# Altium footprint library EtherIOv2.PcbLib: 62 footprints (part 4 of 4)
Each footprint in its own frame and in the unit in brackets; x right, y up, seen from the top. Pads: shape width x height; smd on the part's side, far side on the other; paste and mask are expansions set on the pad; w line width, h text height; cw(c..) or ccw(c..) is an arc to the next point about the centre after c.
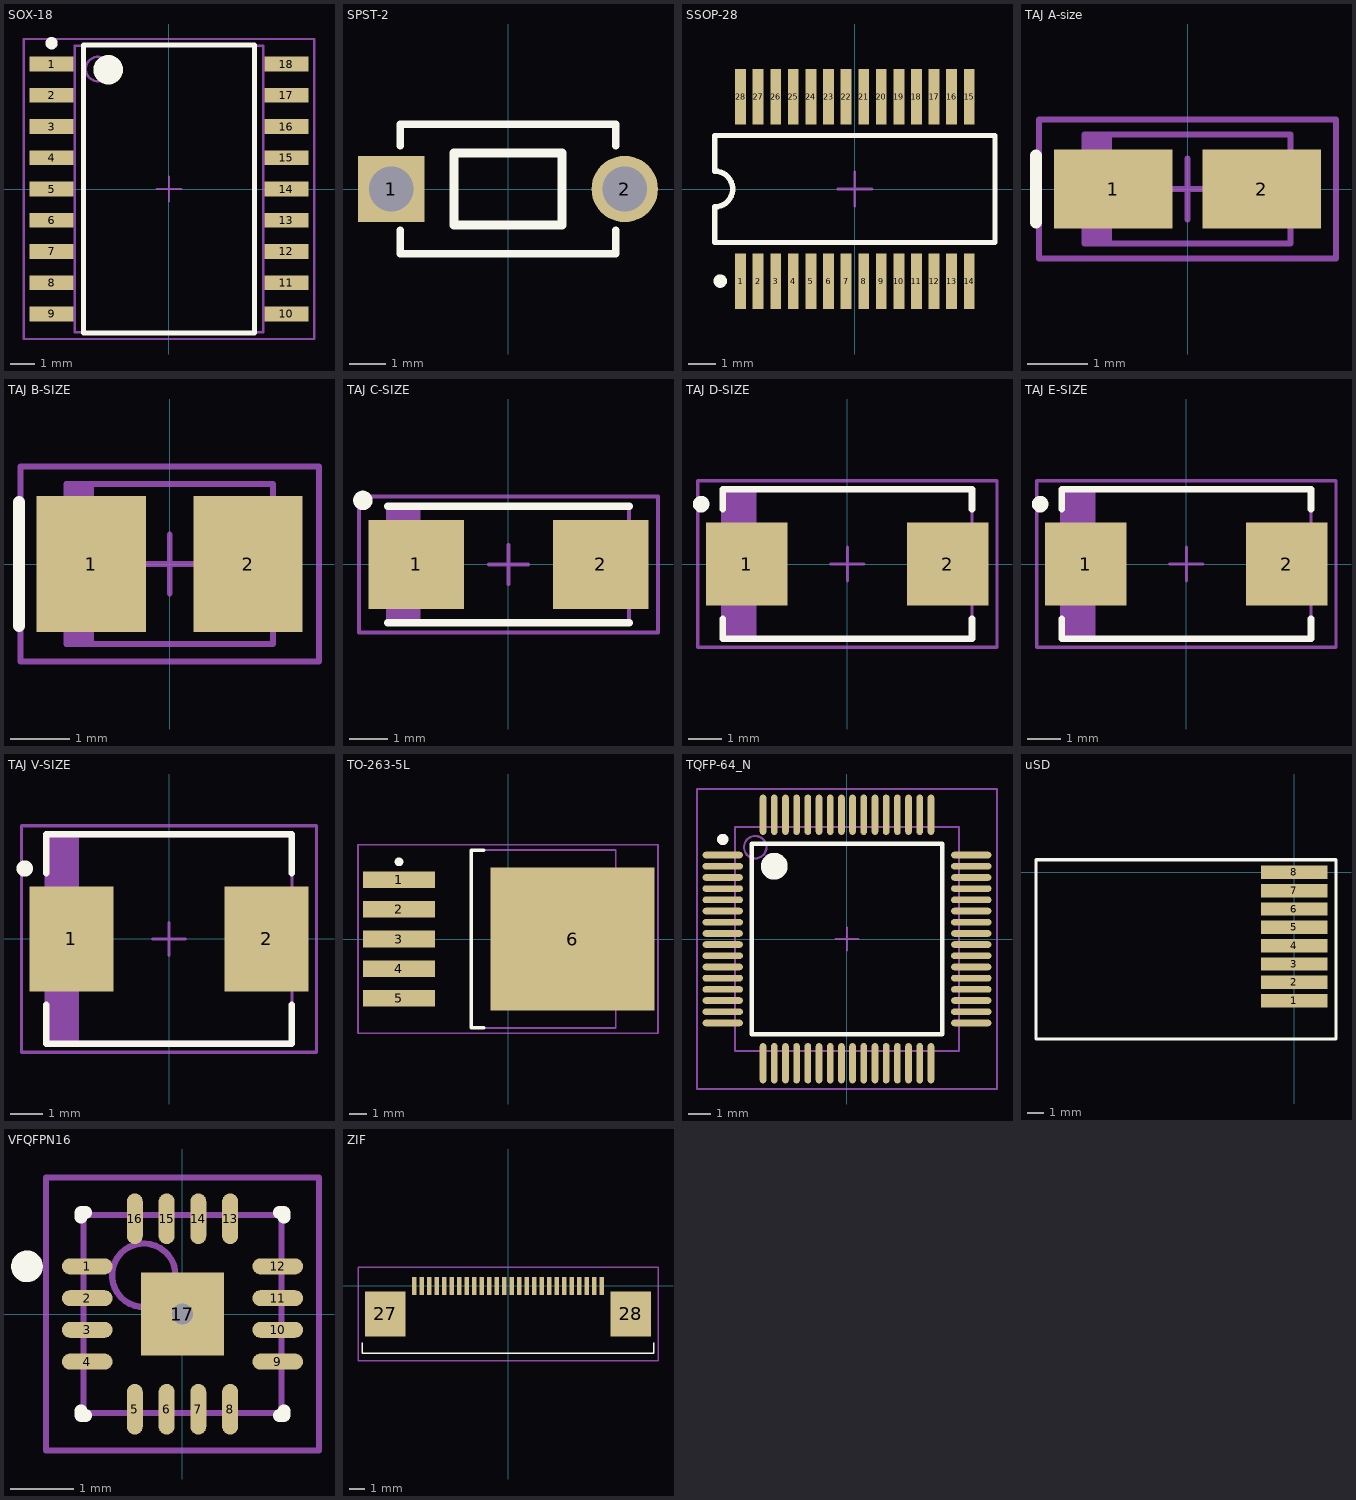
[diagram p3: the footprints below, top view; thin cyan lines are the x and y axes]

## SOX-18 [mm]
height 2.69
pads (18):
  rect 1.8x0.6 smd: 1(-4.775,5.08) 2(-4.775,3.81) 3(-4.775,2.54) 4(-4.775,1.27) 5(-4.775,0) 6(-4.775,-1.27) 7(-4.775,-2.54) 8(-4.775,-3.81) 9(-4.775,-5.08) 10(4.775,-5.08) 11(4.775,-3.81) 12(4.775,-2.54) 13(4.775,-1.27) 14(4.775,0) 15(4.775,1.27) 16(4.775,2.54) 17(4.775,3.81) 18(4.775,5.08)
Top Overlay:
  circle w0.25: c-4.775,5.93 r0.125
  circle w0.6: c-2.475,4.85 r0.3
  lines w0.2: -3.475,-5.85 -3.475,5.85 3.475,5.85 3.475,-5.85 -3.475,-5.85
Mechanical 13:
  circle w0.1: c-2.885,4.88 r0.5
  lines w0.1: -3.835,-5.83 -3.835,5.83 3.835,5.83 3.835,-5.83 -3.835,-5.83
Mechanical 15:
  lines w0.1: -0.5,0 0.5,0 ; 0,-0.5 0,0.5 ; -5.9,-6.1 -5.9,6.1 5.9,6.1 5.9,-6.1 -5.9,-6.1
3D body: height 2.69, standoff 0.15, extent -3.835,-5.83 3.835,5.83

## SPST-2 [mm] "Circuit Breaker; 2 Leads"
pads (2):
  rect 1.85x1.85 hole 1.25: 1(-3.25,0)
  round 1.85 hole 1.25: 2(3.25,0)
Top Overlay:
  lines w0.2: -3,-1.15 -3,-1.8 3,-1.8 3,-1.15 ; -3,1.2 -3,1.8 3,1.8 3,1.2
  lines w0.254: -1.5,-1 1.5,-1 1.5,1 -1.5,1 -1.5,-1

## SSOP-28 [mm] "SSOP, Plastic; 28 Leads; Body Width 5.2 mm; Pitch 0.65 mm"
height 1.99
pads (28):
  rect 0.4x2.05 smd: 1(-4.225,-3.4) 2(-3.575,-3.4) 3(-2.925,-3.4) 4(-2.275,-3.4) 5(-1.625,-3.4) 6(-0.975,-3.4) 7(-0.325,-3.4) 8(0.325,-3.4) 9(0.975,-3.4) 10(1.625,-3.4) 11(2.275,-3.4) 12(2.925,-3.4) 13(3.575,-3.4) 14(4.225,-3.4) 15(4.225,3.4) 16(3.575,3.4) 17(2.925,3.4) 18(2.275,3.4) 19(1.625,3.4) 20(0.975,3.4) 21(0.325,3.4) 22(-0.325,3.4) 23(-0.975,3.4) 24(-1.625,3.4) 25(-2.275,3.4) 26(-2.925,3.4) 27(-3.575,3.4) 28(-4.225,3.4)
Top Overlay:
  circle w0.25: c-4.975,-3.4 r0.125
  lines w0.2: -5.175,-1.975 5.175,-1.975 5.175,1.975 -5.175,1.975 -5.175,0.658 cw(c-5.175,0) -5.175,-0.658 -5.175,-1.975
Mechanical 15:
  lines w0.1: -0.635,0 0.635,0 ; 0,-0.635 0,0.635

## TAJ A-size [mm] "Molded Capacitor, 2-Leads, Body 3,2x1,6mm, IPC Medium Density"
height 1.8
pads (2):
  rect 1.95x1.3 smd: 1(-1.225,0) 2(1.225,0)
Top Overlay:
  lines w0.2: -2.5,-0.55 -2.5,0.55
Mechanical 13:
  rectangle: -1.7,-0.9 -1.243,0.9
  lines w0.1: -1.7,-0.9 1.7,-0.9 1.7,0.9 -1.7,0.9 -1.7,-0.9
Mechanical 15:
  lines w0.1: -0.5,0 0.5,0 ; 0,-0.5 0,0.5 ; -2.45,-1.15 2.45,-1.15 2.45,1.15 -2.45,1.15 -2.45,-1.15
3D body: height 1.8, standoff 0, extent -1.7,-0.9 1.7,0.9

## TAJ B-SIZE [mm] "Molded Capacitor, 2-Leads, Body 3,4x2,9mm, IPC Medium Density"
height 2.1
pads (2):
  rect 1.85x2.3 smd: 1(-1.325,0) 2(1.325,0)
Top Overlay:
  lines w0.2: -2.55,-1.05 -2.55,1.05
Mechanical 13:
  rectangle: -1.75,-1.35 -1.279,1.35
  lines w0.1: -1.75,-1.35 -1.75,1.35 1.75,1.35 1.75,-1.35 -1.75,-1.35
Mechanical 15:
  lines w0.1: -0.5,0 0.5,0 ; 0,-0.5 0,0.5 ; -2.525,-1.65 -2.525,1.65 2.525,1.65 2.525,-1.65 -2.525,-1.65
3D body: height 2.1, standoff 0, extent -1.75,-1.35 1.75,1.35

## TAJ C-SIZE [mm] "Molded Capacitor, 2-Leads, Body 6,0x2,9mm, IPC Medium Density"
height 2.8
pads (2):
  rect 2.45x2.3 smd: 1(-2.375,0) 2(2.375,0)
Top Overlay:
  circle w0.25: c-3.75,1.65 r0.125
  lines w0.2: -3.1,-1.5 3.1,-1.5 ; -3.1,1.5 3.1,1.5
Mechanical 13:
  rectangle: -3.1,-1.5 -2.266,1.5
  lines w0.1: -3.1,-1.5 -3.1,1.5 3.1,1.5 3.1,-1.5 -3.1,-1.5
Mechanical 15:
  lines w0.1: -0.5,0 0.5,0 ; 0,-0.5 0,0.5 ; -3.85,-1.75 -3.85,1.75 3.85,1.75 3.85,-1.75 -3.85,-1.75
3D body: height 2.8, standoff 0, extent -3.1,-1.5 3.1,1.5

## TAJ D-SIZE [mm] "Molded Capacitor, 2-Leads, Body 7,3x4,3mm, IPC Medium Density"
height 3.1
pads (2):
  rect 2.45x2.5 smd: 1(-3.025,0) 2(3.025,0)
Top Overlay:
  circle w0.25: c-4.4,1.8 r0.125
  lines w0.2: -3.75,-1.65 -3.75,-2.25 3.75,-2.25 3.75,-1.65 ; -3.75,1.65 -3.75,2.25 3.75,2.25 3.75,1.65
Mechanical 13:
  rectangle: -3.75,-2.25 -2.741,2.25
  lines w0.1: -3.75,-2.25 3.75,-2.25 3.75,2.25 -3.75,2.25 -3.75,-2.25
Mechanical 15:
  lines w0.1: -0.5,0 0.5,0 ; 0,-0.5 0,0.5 ; -4.5,-2.5 4.5,-2.5 4.5,2.5 -4.5,2.5 -4.5,-2.5
3D body: height 3.1, standoff 0, extent -3.75,-2.25 3.75,2.25

## TAJ E-SIZE [mm] "Molded Capacitor, 2-Leads, Body 7,3x4,3mm, IPC Medium Density"
height 4.3
pads (2):
  rect 2.45x2.5 smd: 1(-3.025,0) 2(3.025,0)
Top Overlay:
  circle w0.25: c-4.4,1.8 r0.125
  lines w0.2: -3.75,-1.65 -3.75,-2.25 3.75,-2.25 3.75,-1.65 ; -3.75,1.65 -3.75,2.25 3.75,2.25 3.75,1.65
Mechanical 13:
  rectangle: -3.75,-2.25 -2.741,2.25
  lines w0.1: -3.75,-2.25 -3.75,2.25 3.75,2.25 3.75,-2.25 -3.75,-2.25
Mechanical 15:
  lines w0.1: -0.5,0 0.5,0 ; 0,-0.5 0,0.5 ; -4.5,-2.5 -4.5,2.5 4.5,2.5 4.5,-2.5 -4.5,-2.5
3D body: height 4.3, standoff 0, extent -3.75,-2.25 3.75,2.25

## TAJ V-SIZE [mm] "Molded Capacitor, 2-Leads, Body 7,3x6,2mm, IPC Medium Density"
height 3.75
pads (2):
  rect 2.55x3.2 smd: 1(-2.975,0) 2(2.975,0)
Top Overlay:
  circle w0.25: c-4.4,2.15 r0.125
  lines w0.2: -3.75,-2 -3.75,-3.2 3.75,-3.2 3.75,-2 ; -3.75,2 -3.75,3.2 3.75,3.2 3.75,2
Mechanical 13:
  rectangle: -3.75,-3.15 -2.741,3.15
  lines w0.1: -3.75,-3.15 3.75,-3.15 3.75,3.15 -3.75,3.15 -3.75,-3.15
Mechanical 15:
  lines w0.1: -0.5,0 0.5,0 ; 0,-0.5 0,0.5 ; -4.5,-3.45 4.5,-3.45 4.5,3.45 -4.5,3.45 -4.5,-3.45
3D body: height 3.75, standoff 0, extent -3.75,-3.15 3.75,3.15

## TO-263-5L [mm] "D2-PAK, 6-Pads, Body 8,3x10,2mm (max), IPC Medium Density"
height 4.57
pads (6):
  rect 4.15x0.95 smd: 1(-6.25,3.4) 2(-6.25,1.7) 3(-6.25,0) 4(-6.25,-1.7) 5(-6.25,-3.4)
  rect 9.4x8.2 smd: 6(3.7,0)
Top Overlay:
  circle w0.25: c-6.25,4.425 r0.125
  lines w0.2: -1.4,-5.1 -2.1,-5.1 -2.1,5.1 -1.4,5.1
Mechanical 13:
  lines w0.1: -2.1,-5.1 -2.1,5.1 6.18,5.1 6.18,-5.1 -2.1,-5.1
Mechanical 15:
  lines w0.1: -0.5,0 0.5,0 ; 0,-0.5 0,0.5 ; -8.6,-5.4 -8.6,5.4 8.6,5.4 8.6,-5.4 -8.6,-5.4
3D body: height 4.57, standoff 0, extent -2.1,-5.1 6.18,5.1

## TQFP-64_N [mm] "64-Pin Thin Plastic Quad Flat Pack 0.5 mm Pitch, 1.0/0.1 mm Lead Form, IPC Medium Density"
height 1.2
pads (64):
  oval 1.8x0.3 smd: 1(-5.55,3.75) 2(-5.55,3.25) 3(-5.55,2.75) 4(-5.55,2.25) 5(-5.55,1.75) 6(-5.55,1.25) 7(-5.55,0.75) 8(-5.55,0.25) 9(-5.55,-0.25) 10(-5.55,-0.75) 11(-5.55,-1.25) 12(-5.55,-1.75) 13(-5.55,-2.25) 14(-5.55,-2.75) 15(-5.55,-3.25) 16(-5.55,-3.75) 33(5.55,-3.75) 34(5.55,-3.25) 35(5.55,-2.75) 36(5.55,-2.25) 37(5.55,-1.75) 38(5.55,-1.25) 39(5.55,-0.75) 40(5.55,-0.25) 41(5.55,0.25) 42(5.55,0.75) 43(5.55,1.25) 44(5.55,1.75) 45(5.55,2.25) 46(5.55,2.75) 47(5.55,3.25) 48(5.55,3.75)
  oval 0.3x1.8 smd: 17(-3.75,-5.55) 18(-3.25,-5.55) 19(-2.75,-5.55) 20(-2.25,-5.55) 21(-1.75,-5.55) 22(-1.25,-5.55) 23(-0.75,-5.55) 24(-0.25,-5.55) 25(0.25,-5.55) 26(0.75,-5.55) 27(1.25,-5.55) 28(1.75,-5.55) 29(2.25,-5.55) 30(2.75,-5.55) 31(3.25,-5.55) 32(3.75,-5.55) 49(3.75,5.55) 50(3.25,5.55) 51(2.75,5.55) 52(2.25,5.55) 53(1.75,5.55) 54(1.25,5.55) 55(0.75,5.55) 56(0.25,5.55) 57(-0.25,5.55) 58(-0.75,5.55) 59(-1.25,5.55) 60(-1.75,5.55) 61(-2.25,5.55) 62(-2.75,5.55) 63(-3.25,5.55) 64(-3.75,5.55)
Top Overlay:
  circle w0.6: c-3.25,3.25 r0.3
  circle w0.25: c-5.55,4.45 r0.125
  lines w0.2: -4.25,-4.25 4.25,-4.25 4.25,4.25 -4.25,4.25 -4.25,-4.25
Mechanical 13:
  circle w0.1: c-4.1,4.1 r0.5
  lines w0.1: -5,-5 5,-5 5,5 -5,5 -5,-5
Mechanical 15:
  lines w0.1: -0.5,0 0.5,0 ; 0,-0.5 0,0.5 ; -6.7,-6.7 6.7,-6.7 6.7,6.7 -6.7,6.7 -6.7,-6.7
3D body: height 1.2, standoff 0, extent -5,-5 5,5

## uSD [mm]
pads (8):
  rect 4x0.8 smd: 1(0,-7.7) 2(0,-6.6) 3(0,-5.5) 4(0,-4.4) 5(0,-3.3) 6(0,-2.2) 7(0,-1.1) 8(0,0)
Top Overlay:
  lines w0.2: -15.5,-10 -15.5,0.75 2.5,0.75 2.5,-10 -15.5,-10

## VFQFPN16 [mm] "QFN, 16-Leads, Body 3,1x3,1mm (max), Pitch 0,50mm, IPC Medium Density"
height 1
pads (17):
  oval 0.8x0.25 smd: 1(-1.5,0.75) 2(-1.5,0.25) 3(-1.5,-0.25) 4(-1.5,-0.75) 9(1.5,-0.75) 10(1.5,-0.25) 11(1.5,0.25) 12(1.5,0.75)
  oval 0.25x0.8 smd: 5(-0.75,-1.5) 6(-0.25,-1.5) 7(0.25,-1.5) 8(0.75,-1.5) 13(0.75,1.5) 14(0.25,1.5) 15(-0.25,1.5) 16(-0.75,1.5)
  rect 1.3x1.3 smd: 17(0,0)
via 0,0 diameter 0.66 hole 0.33
Top Overlay:
  circle w0.25: c-2.45,0.75 r0.125
  lines w0.2: -1.6,-1.525 -1.6,-1.6 -1.525,-1.6 ; -1.6,1.525 -1.6,1.6 -1.525,1.6 ; 1.525,-1.6 1.6,-1.6 1.6,-1.525 ; 1.525,1.6 1.6,1.6 1.6,1.525
Mechanical 13:
  circle w0.1: c-0.61,0.61 r0.5
  lines w0.1: -1.56,-1.56 -1.56,1.56 1.56,1.56 1.56,-1.56 -1.56,-1.56
Mechanical 15:
  lines w0.1: -0.5,0 0.5,0 ; 0,-0.5 0,0.5 ; -2.15,-2.15 -2.15,2.15 2.15,2.15 2.15,-2.15 -2.15,-2.15
3D body: height 1, standoff 0.02, extent -1.56,-1.56 1.56,1.56

## ZIF [mm] "LCD SMT ZIF 0.5"
pads (28):
  rect 0.3x1.2 smd: 1(-6.25,0) 2(-5.75,0) 3(-5.25,0) 4(-4.75,0) 5(-4.25,0) 6(-3.75,0) 7(-3.25,0) 8(-2.75,0) 9(-2.25,0) 10(-1.75,0) 11(-1.25,0) 12(-0.75,0) 13(-0.25,0) 14(0.25,0) 15(0.75,0) 16(1.25,0) 17(1.75,0) 18(2.25,0) 19(2.75,0) 20(3.25,0) 21(3.75,0) 22(4.25,0) 23(4.75,0) 24(5.25,0) 25(5.75,0) 26(6.25,0)
  rect 2.7x3 smd: 27(-8.18,-1.86) 28(8.18,-1.86)
Top Overlay:
  lines w0.1: -9.7,-3.8 -9.7,-4.5 9.7,-4.5 9.7,-3.8
Mechanical 15:
  lines w0.1: -10,-5 10,-5 10,1.25 -10,1.25 -10,-5